# EAGLE library part S8B-PH-K (library con-jst-ph)
HEADER
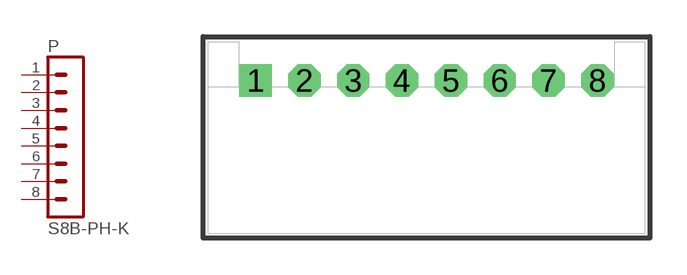
[diagram p11: symbol with the pads of S8B-PH-K; footprint S8B-PH-K]

Designator prefix P

## S8B-PH-K  [S8B-PH-K]
1  1  pas
2  2  pas
3  3  pas
4  4  pas
5  5  pas
6  6  pas
7  7  pas
8  8  pas

## Footprint S8B-PH-K (pad centres in mm)
HEADER
drill 0.813 square: 1 -7,0
drill 0.813 octagon: 2 -5,0; 3 -3,0; 4 -1,0; 5 1,0; 6 3,0; 7 5,0; 8 7,0